# Altium footprint library adafruit.PCBLIB: 643 footprints (part 11 of 41)
Each footprint in its own frame and in the unit in brackets; x right, y up, seen from the top. Pads: shape width x height; smd on the part's side, far side on the other; paste and mask are expansions set on the pad; w line width, h text height; cw(c..) or ccw(c..) is an arc to the next point about the centre after c.
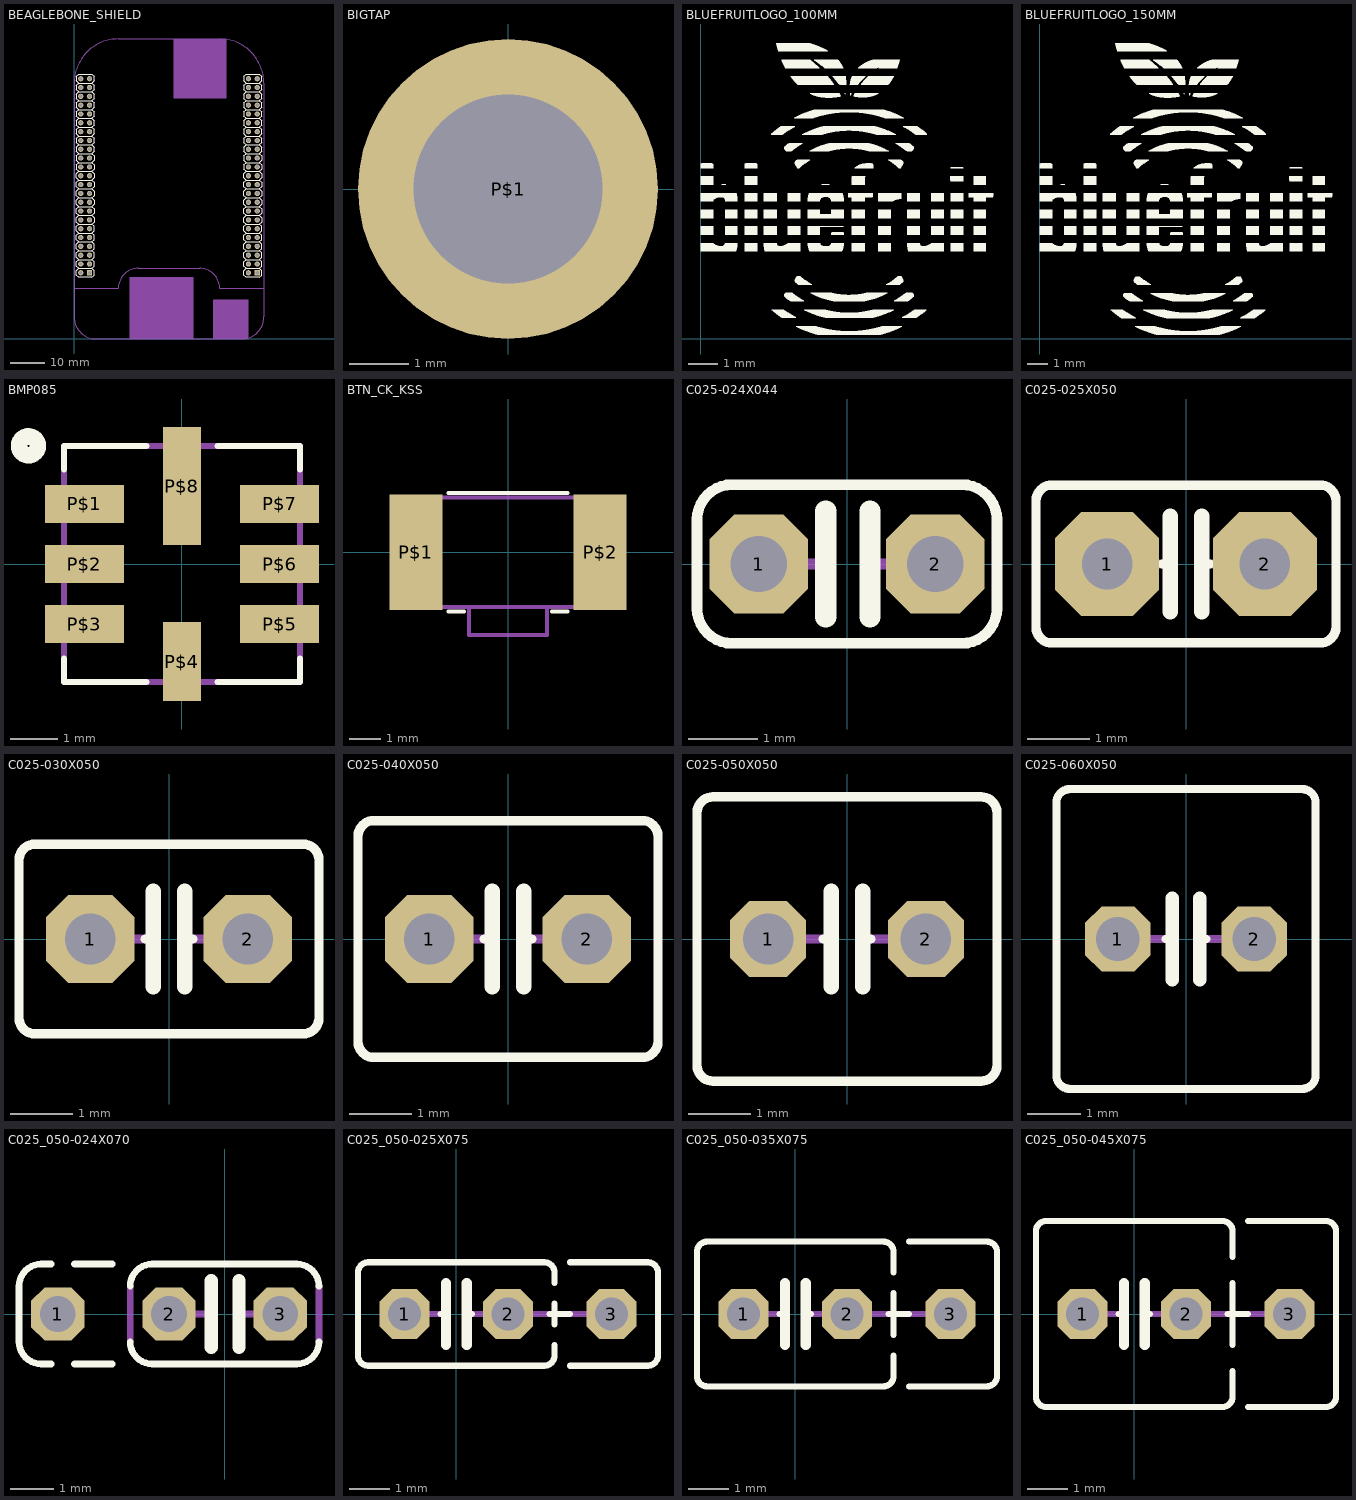
[diagram p10: the footprints below, top view; thin cyan lines are the x and y axes]

## BEAGLEBONE_SHIELD [mm]
pads (92):
  rect 1.5x1.5 hole 1: 1(4.445,19.05) 47(52.705,19.05)
  round 1.5 hole 1: 2(1.905,19.05) 3(4.445,21.59) 4(1.905,21.59) 5(4.445,24.13) 6(1.905,24.13) 7(4.445,26.67) 8(1.905,26.67) 9(4.445,29.21) 10(1.905,29.21) 11(4.445,31.75) 12(1.905,31.75) 13(4.445,34.29) 14(1.905,34.29) 15(4.445,36.83) 16(1.905,36.83) 17(4.445,39.37) 18(1.905,39.37) 19(4.445,41.91) 20(1.905,41.91) 21(4.445,44.45) 22(1.905,44.45) 23(4.445,46.99) 24(1.905,46.99) 25(4.445,49.53) 26(1.905,49.53) 27(4.445,52.07) 28(1.905,52.07) 29(4.445,54.61) 30(1.905,54.61) 31(4.445,57.15) 32(1.905,57.15) 33(4.445,59.69) 34(1.905,59.69) 35(4.445,62.23) 36(1.905,62.23) 37(4.445,64.77) 38(1.905,64.77) 39(4.445,67.31) 40(1.905,67.31) 41(4.445,69.85) 42(1.905,69.85) 43(4.445,72.39) 44(1.905,72.39) 45(4.445,74.93) 46(1.905,74.93) 48(50.165,19.05) 49(52.705,21.59) 50(50.165,21.59) 51(52.705,24.13) 52(50.165,24.13) 53(52.705,26.67) 54(50.165,26.67) 55(52.705,29.21) 56(50.165,29.21) 57(52.705,31.75) 58(50.165,31.75) 59(52.705,34.29) 60(50.165,34.29) 61(52.705,36.83) 62(50.165,36.83) 63(52.705,39.37) 64(50.165,39.37) 65(52.705,41.91) 66(50.165,41.91) 67(52.705,44.45) 68(50.165,44.45) 69(52.705,46.99) 70(50.165,46.99) 71(52.705,49.53) 72(50.165,49.53) 73(52.705,52.07) 74(50.165,52.07) 75(52.705,54.61) 76(50.165,54.61) 77(52.705,57.15) 78(50.165,57.15) 79(52.705,59.69) 80(50.165,59.69) 81(52.705,62.23) 82(50.165,62.23) 83(52.705,64.77) 84(50.165,64.77) 85(52.705,67.31) 86(50.165,67.31) 87(52.705,69.85) 88(50.165,69.85) 89(52.705,72.39) 90(50.165,72.39) 91(52.705,74.93) 92(50.165,74.93)
Top Overlay:
  drawing of 324 lines, arcs and shapes, not listed
Mechanical 1:
  lines w0.127: 0,14.605 0,73.66 cw(c12.7,73.66) 12.7,86.36 41.91,86.36 cw(c41.91,73.66) 54.61,73.66 54.61,14.605 41.91,14.605 ccw(c36.195,14.605) 36.195,20.32 18.415,20.32 ccw(c18.415,14.605) 12.7,14.605 0,14.605
Mechanical 16:
  region: 4.699,18.796 4.699,19.304 4.191,19.304 4.191,18.796
  region: 2.159,18.796 2.159,19.304 1.651,19.304 1.651,18.796
  region: 2.159,21.336 2.159,21.844 1.651,21.844 1.651,21.336
  region: 4.699,21.336 4.699,21.844 4.191,21.844 4.191,21.336
  region: 2.159,23.876 2.159,24.384 1.651,24.384 1.651,23.876
  region: 4.699,23.876 4.699,24.384 4.191,24.384 4.191,23.876
  region: 2.159,26.416 2.159,26.924 1.651,26.924 1.651,26.416
  region: 2.159,28.956 2.159,29.464 1.651,29.464 1.651,28.956
  region: 2.159,31.496 2.159,32.004 1.651,32.004 1.651,31.496
  region: 4.699,26.416 4.699,26.924 4.191,26.924 4.191,26.416
  region: 4.699,28.956 4.699,29.464 4.191,29.464 4.191,28.956
  region: 4.699,31.496 4.699,32.004 4.191,32.004 4.191,31.496
  region: 2.159,34.036 2.159,34.544 1.651,34.544 1.651,34.036
  region: 4.699,34.036 4.699,34.544 4.191,34.544 4.191,34.036
  region: 2.159,36.576 2.159,37.084 1.651,37.084 1.651,36.576
  region: 4.699,36.576 4.699,37.084 4.191,37.084 4.191,36.576
  region: 2.159,39.116 2.159,39.624 1.651,39.624 1.651,39.116
  region: 4.699,39.116 4.699,39.624 4.191,39.624 4.191,39.116
  region: 2.159,41.656 2.159,42.164 1.651,42.164 1.651,41.656
  region: 4.699,41.656 4.699,42.164 4.191,42.164 4.191,41.656
  region: 2.159,44.196 2.159,44.704 1.651,44.704 1.651,44.196
  region: 4.699,44.196 4.699,44.704 4.191,44.704 4.191,44.196
  region: 2.159,46.736 2.159,47.244 1.651,47.244 1.651,46.736
  region: 4.699,46.736 4.699,47.244 4.191,47.244 4.191,46.736
  region: 2.159,49.276 2.159,49.784 1.651,49.784 1.651,49.276
  region: 4.699,49.276 4.699,49.784 4.191,49.784 4.191,49.276
  region: 2.159,51.816 2.159,52.324 1.651,52.324 1.651,51.816
  region: 4.699,51.816 4.699,52.324 4.191,52.324 4.191,51.816
  region: 2.159,54.356 2.159,54.864 1.651,54.864 1.651,54.356
  region: 4.699,54.356 4.699,54.864 4.191,54.864 4.191,54.356
  region: 2.159,56.896 2.159,57.404 1.651,57.404 1.651,56.896
  region: 4.699,56.896 4.699,57.404 4.191,57.404 4.191,56.896
  region: 2.159,59.436 2.159,59.944 1.651,59.944 1.651,59.436
  region: 4.699,59.436 4.699,59.944 4.191,59.944 4.191,59.436
  region: 2.159,61.976 2.159,62.484 1.651,62.484 1.651,61.976
  region: 4.699,61.976 4.699,62.484 4.191,62.484 4.191,61.976
  region: 2.159,64.516 2.159,65.024 1.651,65.024 1.651,64.516
  region: 4.699,64.516 4.699,65.024 4.191,65.024 4.191,64.516
  region: 2.159,67.056 2.159,67.564 1.651,67.564 1.651,67.056
  region: 4.699,67.056 4.699,67.564 4.191,67.564 4.191,67.056
  region: 2.159,69.596 2.159,70.104 1.651,70.104 1.651,69.596
  region: 4.699,69.596 4.699,70.104 4.191,70.104 4.191,69.596
  region: 2.159,72.136 2.159,72.644 1.651,72.644 1.651,72.136
  region: 4.699,72.136 4.699,72.644 4.191,72.644 4.191,72.136
  region: 2.159,74.676 2.159,75.184 1.651,75.184 1.651,74.676
  region: 4.699,74.676 4.699,75.184 4.191,75.184 4.191,74.676
  region: 52.959,18.796 52.959,19.304 52.451,19.304 52.451,18.796
  region: 50.419,18.796 50.419,19.304 49.911,19.304 49.911,18.796
  region: 50.419,21.336 50.419,21.844 49.911,21.844 49.911,21.336
  region: 52.959,21.336 52.959,21.844 52.451,21.844 52.451,21.336
  region: 50.419,23.876 50.419,24.384 49.911,24.384 49.911,23.876
  region: 52.959,23.876 52.959,24.384 52.451,24.384 52.451,23.876
  region: 50.419,26.416 50.419,26.924 49.911,26.924 49.911,26.416
  region: 50.419,28.956 50.419,29.464 49.911,29.464 49.911,28.956
  region: 50.419,31.496 50.419,32.004 49.911,32.004 49.911,31.496
  region: 52.959,26.416 52.959,26.924 52.451,26.924 52.451,26.416
  region: 52.959,28.956 52.959,29.464 52.451,29.464 52.451,28.956
  region: 52.959,31.496 52.959,32.004 52.451,32.004 52.451,31.496
  region: 50.419,34.036 50.419,34.544 49.911,34.544 49.911,34.036
  region: 52.959,34.036 52.959,34.544 52.451,34.544 52.451,34.036
  region: 50.419,36.576 50.419,37.084 49.911,37.084 49.911,36.576
  region: 52.959,36.576 52.959,37.084 52.451,37.084 52.451,36.576
  region: 50.419,39.116 50.419,39.624 49.911,39.624 49.911,39.116
  region: 52.959,39.116 52.959,39.624 52.451,39.624 52.451,39.116
  region: 50.419,41.656 50.419,42.164 49.911,42.164 49.911,41.656
  region: 52.959,41.656 52.959,42.164 52.451,42.164 52.451,41.656
  region: 50.419,44.196 50.419,44.704 49.911,44.704 49.911,44.196
  region: 52.959,44.196 52.959,44.704 52.451,44.704 52.451,44.196
  region: 50.419,46.736 50.419,47.244 49.911,47.244 49.911,46.736
  region: 52.959,46.736 52.959,47.244 52.451,47.244 52.451,46.736
  region: 50.419,49.276 50.419,49.784 49.911,49.784 49.911,49.276
  region: 52.959,49.276 52.959,49.784 52.451,49.784 52.451,49.276
  region: 50.419,51.816 50.419,52.324 49.911,52.324 49.911,51.816
  region: 52.959,51.816 52.959,52.324 52.451,52.324 52.451,51.816
  region: 50.419,54.356 50.419,54.864 49.911,54.864 49.911,54.356
  region: 52.959,54.356 52.959,54.864 52.451,54.864 52.451,54.356
  region: 50.419,56.896 50.419,57.404 49.911,57.404 49.911,56.896
  region: 52.959,56.896 52.959,57.404 52.451,57.404 52.451,56.896
  region: 50.419,59.436 50.419,59.944 49.911,59.944 49.911,59.436
  region: 52.959,59.436 52.959,59.944 52.451,59.944 52.451,59.436
  region: 50.419,61.976 50.419,62.484 49.911,62.484 49.911,61.976
  region: 52.959,61.976 52.959,62.484 52.451,62.484 52.451,61.976
  region: 50.419,64.516 50.419,65.024 49.911,65.024 49.911,64.516
  region: 52.959,64.516 52.959,65.024 52.451,65.024 52.451,64.516
  region: 50.419,67.056 50.419,67.564 49.911,67.564 49.911,67.056
  region: 52.959,67.056 52.959,67.564 52.451,67.564 52.451,67.056
  region: 50.419,69.596 50.419,70.104 49.911,70.104 49.911,69.596
  region: 52.959,69.596 52.959,70.104 52.451,70.104 52.451,69.596
  region: 50.419,72.136 50.419,72.644 49.911,72.644 49.911,72.136
  region: 52.959,72.136 52.959,72.644 52.451,72.644 52.451,72.136
  region: 50.419,74.676 50.419,75.184 49.911,75.184 49.911,74.676
  region: 52.959,74.676 52.959,75.184 52.451,75.184 52.451,74.676
  lines w0.127: 0,14.605 0,6.35 ccw(c6.35,6.35) 6.35,0 48.26,0 ccw(c48.26,6.35) 54.61,6.35 54.61,14.605
  text "P8" at 2.54,77.47 h1.97
  text "P9" at 50.8,77.47 h1.97
Mechanical 27:
  rectangle: 28.575,69.215 43.815,86.36
  rectangle: 40.005,0 50.165,11.43
  rectangle: 15.875,0 34.29,17.78

## BIGTAP [mil]
pads (1):
  round 200 hole 125.98: P$1(0,0)
Top Layer:
  region: 0,0 10,0 10,10 0,10
Bottom Layer:
  region: 0,0 10,0 10,10 0,10
Top Solder:
  region: 0,0 10,0 10,10 0,10
Bottom Solder:
  region: 0,0 10,0 10,10 0,10

## BLUEFRUITLOGO_100MM [mil]
Top Overlay:
  drawing of 2838 lines, arcs and shapes, not listed

## BLUEFRUITLOGO_150MM [mil]
Top Overlay:
  drawing of 2838 lines, arcs and shapes, not listed

## BMP085 [mil]
pads (8):
  rect 65.75x31.5 smd: P$1(-81.3,50) P$2(-81.3,0) P$3(-81.3,-50) P$5(81.3,-50) P$6(81.3,0) P$7(81.3,50)
  rect 31.5x65.75 smd: P$4(0,-81.3)
  rect 31.5x98.43 smd: P$8(0,64.96)
Top Overlay:
  circle w13.78: c-127.95,98.43 r7.87
  lines w5: -98.43,-78.74 -98.43,-98.43 -29.53,-98.43 ; -98.43,78.74 -98.43,98.43 -29.53,98.43 ; 29.53,-98.43 98.43,-98.43 98.43,-78.74 ; 29.53,98.43 98.43,98.43 98.43,78.74
Mechanical 16:
  lines w5: -98.43,-98.43 98.43,-98.43 98.43,98.43 -98.43,98.43 -98.43,-98.43

## BTN_CK_KSS [mm]
pads (2):
  rect 1.7x3.7 smd: P$1(-2.95,0) P$2(2.95,0)
Top Overlay:
  lines w0.127: -1.9,-1.9 -1.4,-1.9 ; -1.9,1.9 1.9,1.9 ; 1.4,-1.9 1.9,-1.9
Mechanical 16:
  lines w0.127: -2.75,-1.505 -2.75,-1.75 -1.25,-1.75 ; -2.75,-1.505 -2.75,1.505 ; -2.75,-1.505 -3.5,-1.505 -3.5,1.505 -2.75,1.505 ; -2.75,1.505 -2.75,1.75 2.75,1.75 2.75,1.505 ; -1.25,-1.75 1.25,-1.75 ; -1.25,-1.75 -1.25,-2.65 1.25,-2.65 1.25,-1.75 ; 1.25,-1.75 2.75,-1.75 2.75,-1.505 ; 2.75,-1.505 2.75,1.505 ; 2.75,-1.505 3.5,-1.505 3.5,1.505 2.75,1.505

## C025-024X044 [mil]
pads (2):
  oct 56x56 hole 32: 1(-50,0) 2(50,0)
Top Overlay:
  lines w6: -85,-25 -85,25 cw(c-65,25) -65,45 65,45 cw(c65,25) 85,25 85,-25 cw(c65,-25) 65,-45 -65,-45 cw(c-65,-25) -85,-25
  lines w12: -12,-30 -12,30 ; 13,-30 13,30
Mechanical 16:
  lines w6: -50,0 -12,0 ; 13,0 50,0

## C025-025X050 [mil]
pads (2):
  oct 66x66 hole 32: 1(-50,0) 2(50,0)
Top Overlay:
  lines w6: -15,0 -10,0 ; 10,0 15,0 ; -95,-40 -95,40 cw(c-85,40) -85,50 85,50 cw(c85,40) 95,40 95,-40 cw(c85,-40) 85,-50 -85,-50 cw(c-85,-40) -95,-40
  lines w10: -10,-30 -10,0 -10,30 ; 10,-30 10,0 10,30
Mechanical 16:
  lines w6: -30,0 -15,0 ; 15,0 30,0

## C025-030X050 [mil]
pads (2):
  oct 56x56 hole 32: 1(-50,0) 2(50,0)
Top Overlay:
  lines w6: -15,0 -10,0 ; 10,0 15,0 ; -95,-50 -95,50 cw(c-85,50) -85,60 85,60 cw(c85,50) 95,50 95,-50 cw(c85,-50) 85,-60 -85,-60 cw(c-85,-50) -95,-50
  lines w10: -10,-30 -10,0 -10,30 ; 10,-30 10,0 10,30
Mechanical 16:
  lines w6: -30,0 -15,0 ; 15,0 30,0

## C025-040X050 [mil]
pads (2):
  oct 56x56 hole 32: 1(-50,0) 2(50,0)
Top Overlay:
  lines w6: -15,0 -10,0 ; 10,0 15,0 ; -95,-65 -95,65 cw(c-85,65) -85,75 85,75 cw(c85,65) 95,65 95,-65 cw(c85,-65) 85,-75 -85,-75 cw(c-85,-65) -95,-65
  lines w10: -10,-30 -10,0 -10,30 ; 10,-30 10,0 10,30
Mechanical 16:
  lines w6: -30,0 -15,0 ; 15,0 30,0

## C025-050X050 [mil]
pads (2):
  oct 48x48 hole 32: 1(-50,0) 2(50,0)
Top Overlay:
  lines w6: -15,0 -10,0 ; 10,0 15,0 ; -95,-80 -95,80 cw(c-85,80) -85,90 85,90 cw(c85,80) 95,80 95,-80 cw(c85,-80) 85,-90 -85,-90 cw(c-85,-80) -95,-80
  lines w10: -10,-30 -10,0 -10,30 ; 10,-30 10,0 10,30
Mechanical 16:
  lines w6: -30,0 -15,0 ; 15,0 30,0

## C025-060X050 [mil]
pads (2):
  oct 48x48 hole 32: 1(-50,0) 2(50,0)
Top Overlay:
  lines w6: -15,0 -10,0 ; 10,0 15,0 ; -95,-100 -95,100 cw(c-85,100) -85,110 85,110 cw(c85,100) 95,100 95,-100 cw(c85,-100) 85,-110 -85,-110 cw(c-85,-100) -95,-100
  lines w10: -10,-30 -10,0 -10,30 ; 10,-30 10,0 10,30
Mechanical 16:
  lines w6: -30,0 -15,0 ; 15,0 30,0

## C025_050-024X070 [mil]
pads (3):
  oct 48x48 hole 32: 1(-150,0) 2(-50,0) 3(50,0)
Top Overlay:
  lines w6: -156,-45 -165,-45 cw(c-165,-25) -185,-25 -185,25 cw(c-165,25) -165,45 -156,45 ; -135,-45 -101,-45 ; -135,45 -101,45 ; -85,-25 ccw(c-65,-25) -65,-45 65,-45 ccw(c65,-25) 85,-25 ; -85,25 cw(c-65,25) -65,45 65,45 cw(c65,25) 85,25
  lines w12: -12,-30 -12,30 ; 13,-30 13,30
Mechanical 16:
  lines w6: -85,-25 -85,25 ; -50,0 -12,0 ; 13,0 50,0 ; 85,-25 85,25

## C025_050-025X075 [mil]
pads (3):
  oct 48x48 hole 32: 1(-50,0) 2(50,0) 3(150,0)
Top Overlay:
  lines w6: -15,0 -10,0 ; 10,0 15,0 ; 90,0 110,0 ; 95,-30 95,-40 cw(c85,-40) 85,-50 -85,-50 cw(c-85,-40) -95,-40 -95,40 cw(c-85,40) -85,50 85,50 cw(c85,40) 95,40 95,30 ; 95,-10 95,10 ; 110,-50 185,-50 ccw(c185,-40) 195,-40 195,40 ccw(c185,40) 185,50 110,50
  lines w10: -10,-30 -10,0 -10,30 ; 10,-30 10,0 10,30
Mechanical 16:
  lines w6: -30,0 -15,0 ; 15,0 30,0 ; 70,0 90,0 ; 110,0 130,0

## C025_050-035X075 [mil]
pads (3):
  oct 48x48 hole 32: 1(-50,0) 2(50,0) 3(150,0)
Top Overlay:
  lines w6: -15,0 -10,0 ; 10,0 15,0 ; 90,0 110,0 ; 95,-40 95,-60 cw(c85,-60) 85,-70 -85,-70 cw(c-85,-60) -95,-60 -95,60 cw(c-85,60) -85,70 85,70 cw(c85,60) 95,60 95,40 ; 95,-20 95,20 ; 110,-70 185,-70 ccw(c185,-60) 195,-60 195,60 ccw(c185,60) 185,70 110,70
  lines w10: -10,-30 -10,0 -10,30 ; 10,-30 10,0 10,30
Mechanical 16:
  lines w6: -30,0 -15,0 ; 15,0 30,0 ; 70,0 90,0 ; 110,0 130,0

## C025_050-045X075 [mil]
pads (3):
  oct 48x48 hole 32: 1(-50,0) 2(50,0) 3(150,0)
Top Overlay:
  lines w6: -15,0 -10,0 ; 10,0 15,0 ; 90,0 110,0 ; 95,-55 95,-80 cw(c85,-80) 85,-90 -85,-90 cw(c-85,-80) -95,-80 -95,80 cw(c-85,80) -85,90 85,90 cw(c85,80) 95,80 95,55 ; 95,-30 95,30 ; 110,-90 185,-90 ccw(c185,-80) 195,-80 195,80 ccw(c185,80) 185,90 110,90
  lines w10: -10,-30 -10,0 -10,30 ; 10,-30 10,0 10,30
Mechanical 16:
  lines w6: -30,0 -15,0 ; 15,0 30,0 ; 70,0 90,0 ; 110,0 130,0